# Altium footprint library sd.PCBLIB: 6 footprints
Each footprint in its own frame and in the unit in brackets; x right, y up, seen from the top. Pads: shape width x height; smd on the part's side, far side on the other; paste and mask are expansions set on the pad; w line width, h text height; cw(c..) or ccw(c..) is an arc to the next point about the centre after c.
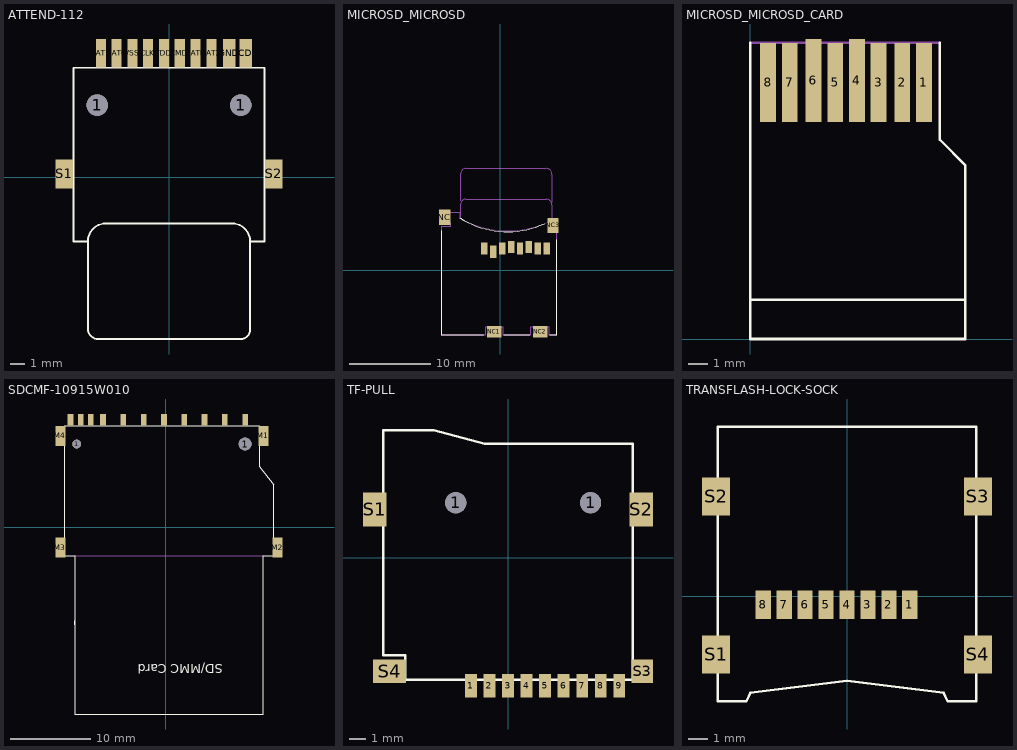
[diagram p0: the footprints below, top view; thin cyan lines are the x and y axes]

## ATTEND-112 [mm]
pads (14):
  round 1.5 hole 1.5: 1(-5,5.02) 1(5,5.02)
  rect 0.85x2 smd: CD(5.35,8.62) GND(4.2,8.62)
  rect 0.7x2 smd: CLK(-1.45,8.62) CMD(0.75,8.62) DAT0(-3.65,8.62) DAT1(-4.75,8.62) DAT2(2.95,8.62) DAT3(1.85,8.62) VDD(-0.35,8.62) VSS(-2.55,8.62)
  rect 1.2x2 smd: S1(-7.3,0.22) S2(7.3,0.22)
Top Overlay:
  lines w0.127: -5.65,-4.48 cw(c-4.4,-4.48) -4.4,-3.23 4.4,-3.23 cw(c4.4,-4.48) 5.65,-4.48 ; -5.65,-4.48 -6.65,-4.48 -6.65,7.62 6.65,7.62 6.65,-4.48 5.65,-4.48 ; -5.65,-4.48 -5.65,-10.573 ccw(c-4.943,-10.573) -4.943,-11.28 5.01,-11.28 ccw(c5.01,-10.64) 5.65,-10.64 5.65,-4.48
Mechanical 16:
  text "card IN" at 0,-9.38 h0.69

## MICROSD_MICROSD [mil]
pads (12):
  rect 31.5x59.06 smd: 1(-76.38,106.3) 2(-33.07,90.55) 3(10.24,106.3) 4(53.54,114.17) 5(96.85,106.3) 6(140.16,114.17) 7(183.46,106.3) 8(226.77,106.3)
  rect 55.12x74.8 smd: NC(-269.69,257.87) NC3(257.87,218.5)
  rect 70.87x55.12 smd: NC1(-29.53,-299.21) NC2(194.88,-299.21)
Top Overlay:
  lines w5: -287.4,192.91 -287.4,-314.96 -80.71,-314.96 ; -196.85,255.91 ccw(c35.2,617.33) 215.02,227.28 ; 16.73,-314.96 144.69,-314.96 ; 241.14,-314.96 275.59,-314.96 275.59,149.61
Mechanical 16:
  lines w0: -192.91,251.97 -192.91,321.25 cw(c-167.7,321.25) -167.7,346.46 224.13,346.46 cw(c224.13,318.62) 251.97,318.62 251.97,248.03 ; -192.91,338.58 -192.91,470.85 cw(c-167.7,470.85) -167.7,496.06 224.13,496.06 cw(c224.13,468.22) 251.97,468.22 251.97,330.71
  lines w5: -287.4,-314.96 -287.4,212.6 -244.09,212.6 -244.09,232.28 -287.4,232.28 -287.4,283.46 -196.85,283.46 -196.85,255.91 ccw(c38.34,659.47) 251.97,244.09 255.91,248.03 275.59,248.03 275.59,-314.96 236.22,-314.96 236.22,-275.59 220.47,-275.59 220.47,-314.96 161.42,-314.96 161.42,-275.59 149.61,-275.59 149.61,-314.96 11.81,-314.96 11.81,-275.59 -3.94,-275.59 -3.94,-314.96 -59.06,-314.96 -59.06,-275.59 -70.87,-275.59 -70.87,-314.96 -287.4,-314.96
  text "card IN" at -27.56,307.09 h49.6
  text "card OUT" at -51.18,456.69 h49.6

## MICROSD_MICROSD_CARD [mm]
pads (8):
  rect 0.8x4 smd: 1(8.8,13) 2(7.7,13) 3(6.5,13) 5(4.3,13) 7(2,13) 8(0.9,13)
  rect 0.8x4.2 smd: 4(5.4,13.1) 6(3.2,13.1)
Top Overlay:
  lines w0.127: 0,15 0,2 ; 9.6,15 9.6,10.1 10.9,8.8 10.9,2 ; 0,2 0,0 10.9,0 10.9,2 ; 0,2 10.9,2
Mechanical 16:
  lines w0.127: 0,15 9.6,15

## SDCMF-10915W010 [mil]
pads (17):
  round 43.31 hole 43.31: 1(-440,410)
  rect 28x56 smd: 1(290,530) 2(190,530) 3(90,530) 4(-10,530) 5(-110,530) 6(-210,530) 7(-310,530) 8(-370,530) 9(390,530) 10(-470,530) 11(-420,530)
  round 62.99 hole 62.99: 1(390,410)
  rect 50x100 smd: M1(480,450) M2(550,-100) M3(-520,-100) M4(-520,450)
Top Overlay:
  lines w5: -450,-480 -450,-460 ; -500,-140 -500,500 460,500 460,300 530,210 530,-140 480,-140 480,-920 -450,-920 -450,-140 -500,-140
  text "SD/MMC Card" at 280,-660 h77.5
Bottom Overlay:
  text "Amphenol MMC/SD" at -300,200 h77.5
Mechanical 1:
  lines w5: -450,-140 480,-140

## TF-PULL [mm]
pads (15):
  round 1.25 hole 1.25: 1(-3.1,3.25) 1(4.9,3.25)
  rect 0.7x1.4 smd: 1(-2.2,-7.62) 2(-1.1,-7.62) 3(0,-7.62) 4(1.1,-7.62) 5(2.2,-7.62) 6(3.3,-7.62) 7(4.4,-7.62) 8(5.5,-7.62) 9(6.6,-7.62)
  rect 1.4x2 smd: S1(-7.9,2.85) S2(7.9,2.85)
  rect 1.28x1.4 smd: S3(7.96,-6.75)
  rect 1.95x1.4 smd: S4(-7.025,-6.75)
Top Overlay:
  lines w0.127: -7.4,-5.8 -7.4,7.55 -4.4,7.55 -1.4,6.75 7.4,6.75 7.4,-7.25 -6.1,-7.25 -6.1,-5.8 -7.4,-5.8

## TRANSFLASH-LOCK-SOCK [mm]
pads (12):
  rect 0.8x1.5 smd: 1(3.3,-0.46) 2(2.2,-0.46) 3(1.1,-0.46) 4(0,-0.46) 5(-1.1,-0.46) 6(-2.2,-0.46) 7(-3.3,-0.46) 8(-4.4,-0.46)
  rect 1.45x2 smd: S1(-6.875,-3.06) S2(-6.875,5.24) S3(6.875,5.24) S4(6.875,-3.06)
Top Overlay:
  lines w0.127: -6.78,-5.51 -6.78,8.89 6.78,8.89 6.78,-4.41 6.78,-5.51 5.28,-5.51 5.08,-5.08 0,-4.445 -5.08,-5.08 -5.28,-5.51 -6.78,-5.51